# EAGLE library part TSC2007 (library sjunglib)
TSC2007 I2C resistive touch screen controller Manufacturer: TI Vcc: 1.2-3.6V 8/12-bit resolution Throughput: 10KHz (12-bit) I2C address: 10010AA
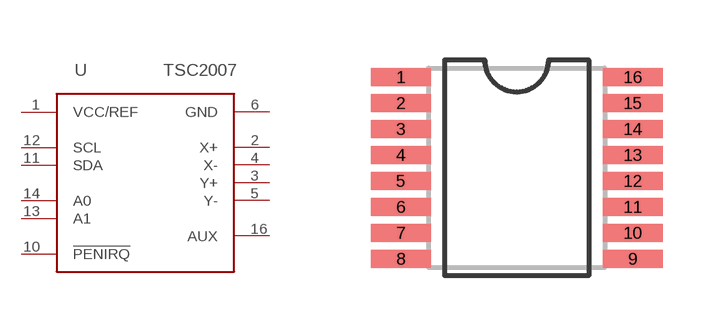
[diagram p1: symbol with the pads of TSSOP-16; footprint TSSOP-16]

Designator prefix U

## TSC2007IPW  [TSSOP-16]
1  VCC/REF  pwr
2  X+  in
3  Y+  in
4  X-  in
5  Y-  in
6  GND  pwr
10  !PENIRQ  out
11  SDA
12  SCL
13  A1  in
14  A0  in
16  AUX  in

## Footprint TSSOP-16 (pad centres in mm)
TSSOP-16 Body width: 4.4mm Pads: 0.45 x 1.5mm Pitch: 0.65mm Center-center spacing: 5.8mm Documented dims: 5.0 x 4.4 mm Documented leads: 0.3 x 1.0 mm JEDEC: MO-153AB EIA:
smd 1.5 x 0.45: 1 -2.9,2.275; 2 -2.9,1.625; 3 -2.9,0.975; 4 -2.9,0.325; 5 -2.9,-0.325; 6 -2.9,-0.975; 7 -2.9,-1.625; 8 -2.9,-2.275; 9 2.9,-2.275; 10 2.9,-1.625; 11 2.9,-0.975; 12 2.9,-0.325; 13 2.9,0.325; 14 2.9,0.975; 15 2.9,1.625; 16 2.9,2.275